# Altium integrated library stackpole_res.IntLib: 3 symbols
Pins are listed as number, name and electrical type; pins without a type are passive.

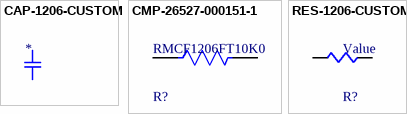
[diagram p0: symbols CAP-1206-CUSTOM to RES-1206-CUSTOM]

## CAP-1206-CUSTOM
designator *  (value not drawn)
Generic 1206-size capacitor
footprint FP-1206-Custom (Custom footprint for 1206 size chip resistor or capacitor, 1.52x2.03mm pads, 3.2mm center-center, 0.7mm height)
pins: 1, 2

## CMP-26527-000151-1
designator R?, comment RMCF1206FT10K0
10kΩ ±1% 0.25W 1206 Thick Film Chip Resistor AEC-Q200 compliant; Resistance: 10kR; Temperature Coefficient: 100ppm/°C; Max Power Dissipation: 250mW; Packaging: Tape and Reel; Resistor Type: Thick Film; Number of Terminations: 2; Depth: 1.6mm; Military Standard: Not; Contact Plating: Tin; Radiation Hardening: No; Lead Free: Lead Free; Tolerance: 1%; Length: 3.2mm; Size Code: 1206; RoHS Compliant: Yes; Case/Package: 1206; Mount: Surface Mount; Features: Automotive AEC-Q200; Min Operating Temperature: -55°C; Series: RMCF; Case Code (Imperial): 1206; Construction: Rectangular; Max Operating Temperature: 155°C; Width: 0.063inch; Height: 0.028inch; Power Rating: 250mW; Case Code (Metric): 3216
footprint FP-RMCF1206-IPC_C
footprint FP-RMCF1206-IPC_B
footprint FP-RMCF1206-MFG
footprint FP-RMCF1206-IPC_A
pins: 1, 2

## RES-1206-CUSTOM
designator R?, comment Value
Generic 1206-size resistor; Resistance: 10kR; Temperature Coefficient: 100ppm/°C; Tolerance: 1%; Max Power Dissipation: 250mW; Packaging: Tape and Reel; Resistor Type: Thick Film; Number of Terminations: 2; Depth: 1.6mm; Military Standard: Not; Contact Plating: Tin; Radiation Hardening: No; Lead Free: Lead Free; Length: 3.2mm; Size Code: 1206; RoHS Compliant: Yes; Case/Package: 1206; Mount: Surface Mount; Features: Automotive AEC-Q200; Min Operating Temperature: -55°C; Series: RMCF; Case Code (Imperial): 1206; Construction: Rectangular; Max Operating Temperature: 155°C; Width: 0.063inch; Height: 0.028inch; Power Rating: 250mW; Case Code (Metric): 3216
footprint FP-RMCF1206-IPC_C
footprint FP-RMCF1206-IPC_B
footprint FP-RMCF1206-MFG
footprint FP-RMCF1206-IPC_A
footprint FP-1206-Custom (Custom footprint for 1206 size chip resistor or capacitor, 1.52x2.03mm pads, 3.2mm center-center, 0.7mm height)
pins: 1, 2